# EAGLE library part PIC18F45K80-I_PT (library PIC18F45K80-I_PT)
MCU, 32kB Flash, ECAN, 12-bit ADC, CTMU Source: Datasheet <http://docs-emea.rs-online.com/webdocs/0f3b/0900766b80f3b175.pdf>
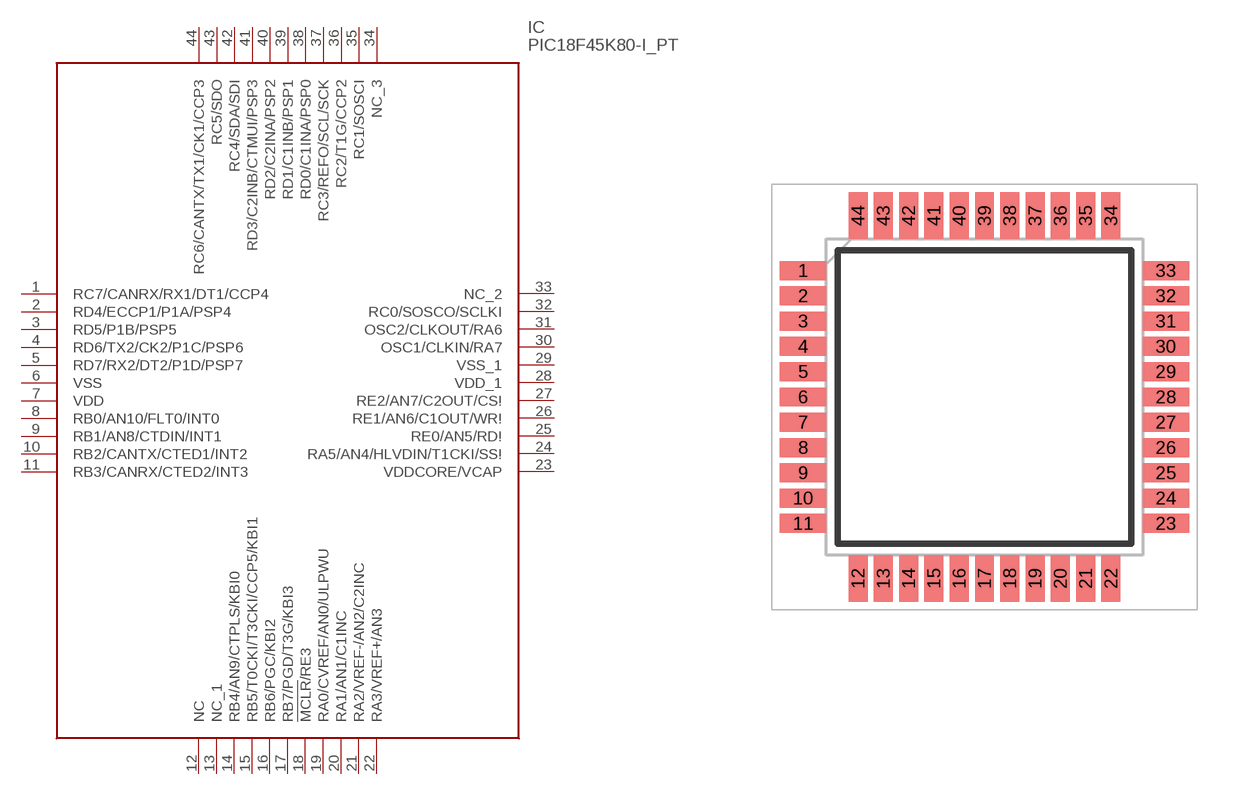
[diagram p0: symbol with the pads of QFP80P1200X1200X120-44N; footprint QFP80P1200X1200X120-44N]

Designator prefix IC

## PIC18F45K80-I_PT (Allied_Number: 70047564; Allied_Price-Stock: http://www.alliedelec.com/microchip-technology-inc-pic18f45k80-i-pt/70047564/; Description: MCU, 32kB Flash, ECAN, 12-bit ADC, CTMU; Height: 1.2mm; Manufacturer_Name: Microchip; Manufacturer_Part_Number: PIC18F45K80-I/PT; Mouser_Part_Number: 579-PIC18F45K80-I/PT; Mouser_Price-Stock: https://www.mouser.com/Search/Refine.aspx?Keyword=579-PIC18F45K80-I%2FPT; RS_Part_Number: 8895477; RS_Price-Stock: http://uk.rs-online.com/web/p/products/8895477)  [QFP80P1200X1200X120-44N]
1  RC7/CANRX/RX1/DT1/CCP4
2  RD4/ECCP1/P1A/PSP4
3  RD5/P1B/PSP5
4  RD6/TX2/CK2/P1C/PSP6
5  RD7/RX2/DT2/P1D/PSP7
6  VSS  pwr
7  VDD  pwr
8  RB0/AN10/FLT0/INT0  in
9  RB1/AN8/CTDIN/INT1  in
10  RB2/CANTX/CTED1/INT2  in
11  RB3/CANRX/CTED2/INT3  in
12  NC  nc
13  NC_1
14  RB4/AN9/CTPLS/KBI0
15  RB5/T0CKI/T3CKI/CCP5/KBI1
16  RB6/PGC/KBI2
17  RB7/PGD/T3G/KBI3
18  !MCLR!/RE3
19  RA0/CVREF/AN0/ULPWU  in
20  RA1/AN1/C1INC  in
21  RA2/VREF-/AN2/C2INC  in
22  RA3/VREF+/AN3  in
23  VDDCORE/VCAP  pwr
24  RA5/AN4/HLVDIN/T1CKI/SS!  in
25  RE0/AN5/RD!
26  RE1/AN6/C1OUT/WR!  out
27  RE2/AN7/C2OUT/CS!  out
28  VDD_1  pwr
29  VSS_1  pwr
30  OSC1/CLKIN/RA7  in
31  OSC2/CLKOUT/RA6  out
32  RC0/SOSCO/SCLKI  in
33  NC_2
34  NC_3
35  RC1/SOSCI
36  RC2/T1G/CCP2
37  RC3/REFO/SCL/SCK  in
38  RD0/C1INA/PSP0  in
39  RD1/C1INB/PSP1  in
40  RD2/C2INA/PSP2  in
41  RD3/C2INB/CTMUI/PSP3  in
42  RC4/SDA/SDI
43  RC5/SDO
44  RC6/CANTX/TX1/CK1/CCP3

## Footprint QFP80P1200X1200X120-44N (pad centres in mm)
(PT)44-Lead(TQFP)
smd 1.475 x 0.6: 1 -5.738,4; 2 -5.738,3.2; 3 -5.738,2.4; 4 -5.738,1.6; 5 -5.738,0.8; 6 -5.738,0; 7 -5.738,-0.8; 8 -5.738,-1.6; 9 -5.738,-2.4; 10 -5.738,-3.2; 11 -5.738,-4; 23 5.738,-4; 24 5.738,-3.2; 25 5.738,-2.4; 26 5.738,-1.6; 27 5.738,-0.8; 28 5.738,0; 29 5.738,0.8; 30 5.738,1.6; 31 5.738,2.4; 32 5.738,3.2; 33 5.738,4
smd 0.6 x 1.475: 12 -4,-5.738; 13 -3.2,-5.738; 14 -2.4,-5.738; 15 -1.6,-5.738; 16 -0.8,-5.738; 17 0,-5.738; 18 0.8,-5.738; 19 1.6,-5.738; 20 2.4,-5.738; 21 3.2,-5.738; 22 4,-5.738; 34 4,5.738; 35 3.2,5.738; 36 2.4,5.738; 37 1.6,5.738; 38 0.8,5.738; 39 0,5.738; 40 -0.8,5.738; 41 -1.6,5.738; 42 -2.4,5.738; 43 -3.2,5.738; 44 -4,5.738